# EAGLE library part VIETDUINO_USB_MICRO (library kxnStandard_connector)
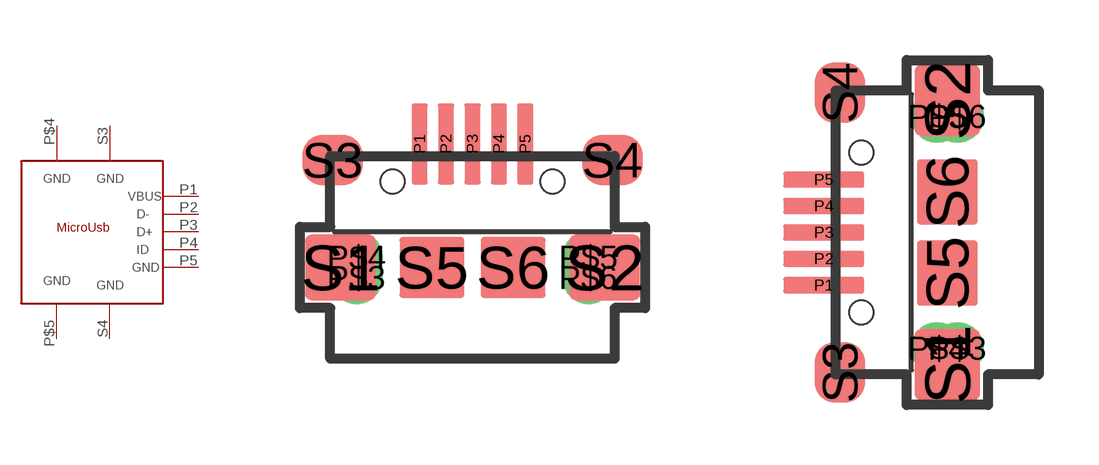
[diagram p0: symbol with the pads of VIETDUINO_MICRO_USBV2; footprints VIETDUINO_MICRO_USBV2, VIETDUINO_MICRO_USB_KAYO]

Designator prefix -

## VIETDUINO_USB_MICRO1 (CC_SHOP: CongCo; ID_PRODUCT: 000000; VALUE: CongMicroUsb)  [VIETDUINO_MICRO_USBV2]
P1  P1
P2  P2
P3  P3
P4  P4
P5  P5
P$4  P$4
P$5  P$5
S3  S3
S4  S4

## VIETDUINO_USB_MICRO (CC_SHOP: CongCo; ID_PRODUCT: 000000; VALUE: CongMicroUsb)  [VIETDUINO_MICRO_USB_KAYO]
Pads as for VIETDUINO_MICRO_USBV2

## VIETDUINO_USB_MICRO_HIDE (CC_SHOP: CongCo)  [VIETDUINO_MICRO_USB_KAYO_HIDE_DIMENSION]
P1  P1
P2  P2
P3  P3
P4  P4
P5  P5
P$3  P$4
P$4  P$4
P$5  P$5
P$6  P$4
S1  P$4
S2  P$4
S3  S3
S4  S4
S5  P$4
S6  P$4

## VIETDUINO_USB_MICRO_HIDE_FIX_PAD (CC_SHOP: CongCo)  [VIETDUINO_MICRO_USB_KAYO_HIDE_DIMENSION_FIX_PAD]
Pads as for VIETDUINO_MICRO_USB_KAYO_HIDE_DIMENSION

## Footprint VIETDUINO_MICRO_USBV2 (pad centres in mm)
2 Pin dip giữ, 2 chân sau SMD http://www.mediafire.com/view/zp3islm3q82rxq2/MicroUSB%20MK5P%20DIP_V2.jpg https://item.taobao.com/item.htm?spm=2013.1.0.0.1e2f5029p3NIFi&id=538147753981&scm=1007.12144.81309.42296_42296&pvid=ed9ed173-3ea4-43a8-8ddd-76d4ffc5e2a4___ S3__P1_P2_P3_P4_P5__S4 |_____________________| P$4_________________P$5
smd 0.406 x 2.032: P1 -1.321,3.092; P2 -0.66,3.092; P3 0,3.092; P4 0.66,3.092; P5 1.321,3.092
drill 0.8 pad 1.143: P$3 -2.9,-0.254; P$4 -2.9,0.254; P$5 2.9,0.254; P$6 2.9,-0.254
smd 1.778 x 1.651: S1 -3.302,0; S2 3.302,0
smd 1.524 x 1.27: S3 -3.5,2.692; S4 3.5,2.692
smd 1.626 x 1.524: S5 -1.016,0; S6 1.016,0
hole 0.6 at -2,2.15
hole 0.6 at 2,2.15

## Footprint VIETDUINO_MICRO_USB_KAYO (pad centres in mm)
smd 2.032 x 0.406: P1 -2.492,-1.321; P2 -2.492,-0.66; P3 -2.492,0; P4 -2.492,0.66; P5 -2.492,1.321
drill 0.8 pad 1.143: P$3 0.854,-2.9; P$4 0.346,-2.9; P$5 0.346,2.9; P$6 0.854,2.9
smd 1.651 x 1.778: S1 0.6,-3.302; S2 0.6,3.302
smd 1.27 x 1.524: S3 -2.092,-3.5; S4 -2.092,3.5
smd 1.524 x 1.626: S5 0.6,-1.016; S6 0.6,1.016
hole 0.6 at -1.55,-2
hole 0.6 at -1.55,2

## Footprint VIETDUINO_MICRO_USB_KAYO_HIDE_DIMENSION (pad centres in mm)
smd 2.032 x 0.406: P1 -2.492,-1.321; P2 -2.492,-0.66; P3 -2.492,0; P4 -2.492,0.66; P5 -2.492,1.321
drill 0.8 pad 1.143: P$3 0.854,-2.9; P$4 0.346,-2.9; P$5 0.346,2.9; P$6 0.854,2.9
smd 1.651 x 1.778: S1 0.6,-3.302; S2 0.6,3.302
smd 1.27 x 1.524: S3 -2.092,-3.5; S4 -2.092,3.5
smd 1.524 x 1.626: S5 0.6,-1.016; S6 0.6,1.016
hole 0.6 at -1.55,-2
hole 0.6 at -1.55,2

## Footprint VIETDUINO_MICRO_USB_KAYO_HIDE_DIMENSION_FIX_PAD (pad centres in mm)
smd 2.032 x 0.406: P1 -2.492,-1.321; P2 -2.492,-0.66; P3 -2.492,0; P4 -2.492,0.66; P5 -2.492,1.321
drill 0.8 pad 1.143: P$3 0.854,-2.9; P$4 0.346,-2.9; P$5 0.346,2.9; P$6 0.854,2.9
smd 1.651 x 1.778: S1 0.6,-3.302; S2 0.6,3.302
smd 1.27 x 1.524: S3 -2.092,-3.5; S4 -2.092,3.5
smd 1.524 x 1.626: S5 0.6,-1.016; S6 0.6,1.016
hole 0.6 at -1.55,-2
hole 0.6 at -1.55,2
hole 0.3 at 0.11,1.57
hole 0.3 at 0.71,1.57
hole 0.3 at 0.11,0.37
hole 0.3 at 0.71,0.37
hole 0.3 at 0.11,0.97
hole 0.3 at 0.71,0.97
hole 0.3 at 0.11,-0.43
hole 0.3 at 0.71,-0.43
hole 0.3 at 0.11,-1.03
hole 0.3 at 0.71,-1.03
hole 0.3 at 0.11,-1.63
hole 0.3 at 0.71,-1.63
hole 0.3 at 1.61,1.47
hole 0.3 at 1.61,-1.47
hole 0.3 at 1.11,0.67
hole 0.3 at 1.11,-0.73